# Altium schematic symbol library CornellBajaLibrary.SchLib: 108 symbols
Pins are listed as number, name and electrical type; pins without a type are passive.

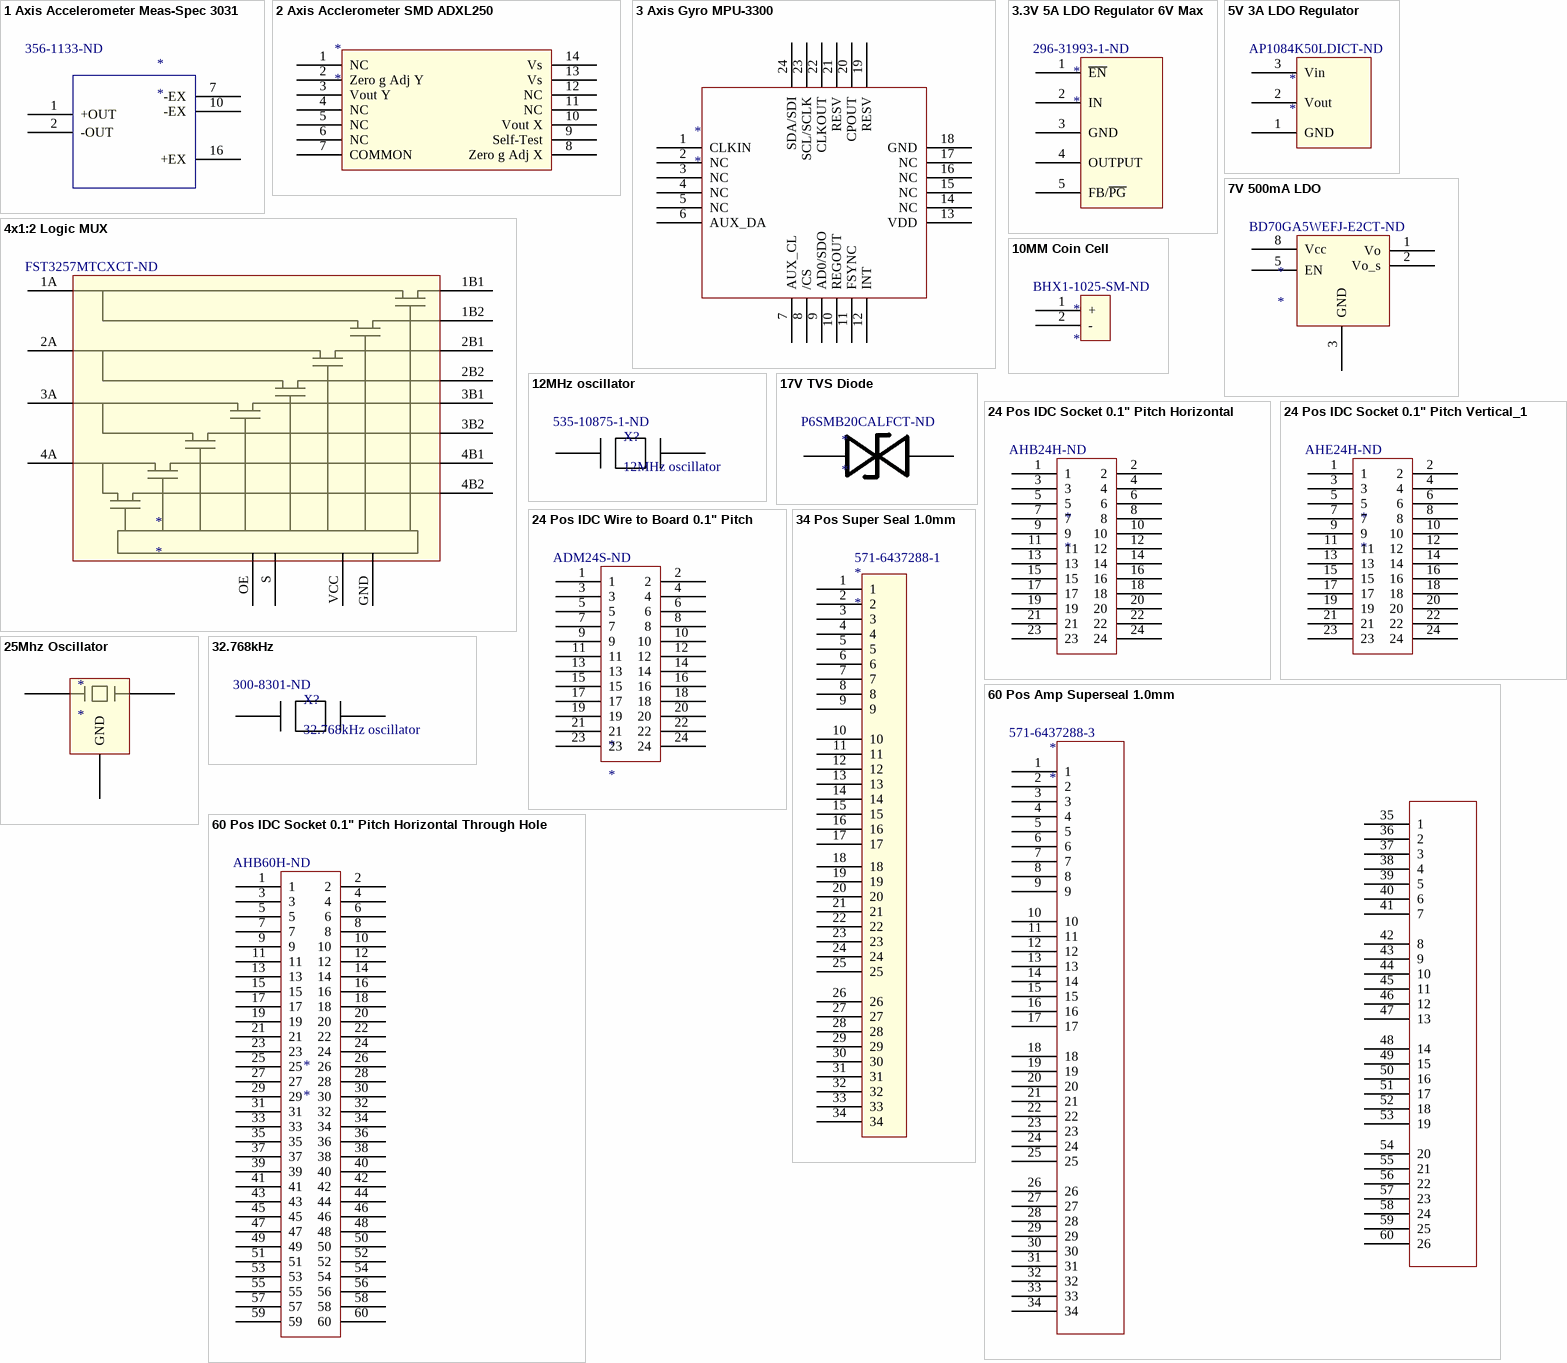
[diagram p0: symbols 1 Axis Accelerometer Meas-Spec 3031 to 60 Pos IDC Socket 0.1" Pitch Horizontal Through Hole]

## 1 Axis Accelerometer Meas-Spec 3031
designator *  Supplier Part Number 1: 356-1133-ND
Supplier 1: Digi-Key
footprint 1 Axis Accel 3031 (Meas-Spec 3031)
pins: 1 +OUT, 2 -OUT, 7 -EX, 10 -EX, 16 +EX

## 2 Axis Acclerometer SMD ADXL250
designator *
footprint ADXL250 (SOP, 14-Leads, Body 9.9x7.4mm (max), Pitch 1.27mm, IPC Medium Density)
pins: 1 NC, 2 Zero g Adj Y, 3 Vout Y, 4 NC, 5 NC, 6 NC, 7 COMMON, 8 Zero g Adj X, 9 Self-Test, 10 Vout X, 11 NC, 12 NC, 13 Vs, 14 Vs

## 3 Axis Gyro MPU-3300
designator *
footprint MPU-3300 (QFN, 24-Leads, Body 4.0x4.0mm (max), Pitch 0.50mm, IPC Medium Density)
pins: 1 CLKIN, 2 NC, 3 NC, 4 NC, 5 NC, 6 AUX_DA, 7 AUX_CL, 8 /CS, 9 AD0/SDO, 10 REGOUT, 11 FSYNC, 12 INT, 13 VDD, 14 NC, 15 NC, 16 NC, 17 NC, 18 GND, 19 RESV, 20 CPOUT, 21 RESV, 22 CLKOUT, 23 SCL/SCLK, 24 SDA/SDI

## 3.3V 5A LDO Regulator 6V Max
designator *  Supplier Part Number 1: 296-31993-1-ND
Supplier 1: Digi-Key; HelpURL: http://www.ti.com/lit/ds/symlink/tps75501.pdf
footprint 3.3V 5A LDO Reg 6V Max (TPS75533KTTT)
pins: 1 ~{EN}, 2 IN, 3 GND, 4 OUTPUT, 5 FB/~{PG}

## 4x1:2 Logic MUX
designator *  Supplier Part Number 1: FST3257MTCXCT-ND
Supplier 1: Digi-Key
footprint 4X 1:2 MUX (FST3257  QSOP); pin to pad 1A>4 1B1>2 1B2>3 2A>7 2B1>5 2B2>6 3A>9 3B1>11 3B2>10 4A>12 4B1>14 4B2>13 GND>8 OE>15 S>1 VCC>16
pins: 1A, 1B1, 1B2, 2A, 2B1, 2B2, 3A, 3B1, 3B2, 4A, 4B1, 4B2, GND, OE, S, VCC

## 5V 3A LDO Regulator
designator *  Supplier Part Number 1: AP1084K50LDICT-ND
Supplier 1: Digi-Key
footprint 5V 5A LDO Reg 12V Max (AP1084K50L-U)
pins: 1 GND, 2 Vout, 3 Vin

## 7V 500mA LDO
designator *  Supplier Part Number 1: BD70GA5WEFJ-E2CT-ND
Supplier 1: Digi-Key
footprint TSOP127P600X100_HS-8N (TSOP, 8-Leads, Body 5.2x4.0mm (max), Pitch 1.27mm, IPC Medium Density)
pins: 1 Vo, 2 Vo_s, 3 GND, 5 EN, 8 Vcc, 9 FIN

## 10MM Coin Cell
designator *  Supplier Part Number 1: BHX1-1025-SM-ND
Supplier 1: Digi-Key
footprint 10MM Coin Cell (BHX1-1025-SM)
pins: 1 +, 2 -

## 12MHz oscillator
designator X?  Supplier Part Number 1: 535-10875-1-ND
12MHz surface mount oscillator; Supplier 1: Digi-Key
footprint 12MHZ Oscillator (ABM2-12.000MHZ-D4Y-T)
pins: 1, 2

## 17V TVS Diode
designator *  Supplier Part Number 1: P6SMB20CALFCT-ND
Supplier 1: Digi-Key
footprint LittelFuse 17V TVS Diode (DO-214AA)
pins: 1 Anode, 2 Cathode

## 24 Pos IDC Socket 0.1" Pitch Horizontal
designator *  Supplier Part Number 1: AHB24H-ND
Supplier 1: Digi-Key
footprint 24 Pos IDC Horizontal 0.1" Pitch Socket
pins: 1, 2, 3, 4, 5, 6, 7, 8, 9, 10, 11, 12, 13, 14, 15, 16, 17, 18, 19, 20, 21, 22, 23, 24

## 24 Pos IDC Socket 0.1" Pitch Vertical_1
designator *  Supplier Part Number 1: AHE24H-ND
Supplier 1: Digi-Key
footprint 24 Pos IDC Vertical 0.1" Pitch Socket
pins: 1, 2, 3, 4, 5, 6, 7, 8, 9, 10, 11, 12, 13, 14, 15, 16, 17, 18, 19, 20, 21, 22, 23, 24

## 24 Pos IDC Wire to Board 0.1" Pitch
designator *  Supplier Part Number 1: ADM24S-ND
Supplier 1: Digi-Key
footprint 24 Pos IDC Vertical 0.1" Pitch Wire to Board
pins: 1, 2, 3, 4, 5, 6, 7, 8, 9, 10, 11, 12, 13, 14, 15, 16, 17, 18, 19, 20, 21, 22, 23, 24

## 25Mhz Oscillator
designator *
footprint 25Mhz Oscillator
pins: 1, 2 GND, 3 2, 4 GND

## 32.768kHz
designator X?, comment 32.768kHz oscillator  Supplier Part Number 1: 300-8301-ND
32.768kHz surface mount oscillator; Supplier 1: Digi-Key
footprint 32.768kHz Oscillator (CFS-206)
pins: 1, 2

## 34 Pos Super Seal 1.0mm
designator *  Supplier Part Number 1: 571-6437288-1
Supplier 1: Mouser
footprint 34 Pos Amp Superseal 1.0mm (6437288-1)
pins: 1, 2, 3, 4, 5, 6, 7, 8, 9, 10, 11, 12, 13, 14, 15, 16, 17, 18, 19, 20, 21, 22, 23, 24, 25, 26, 27, 28, 29, 30, 31, 32, 33, 34

## 60 Pos Amp Superseal 1.0mm
designator *  Supplier Part Number 1: 571-6437288-3
Supplier 1: Mouser
footprint 60 Pos Amp Superseal 1.mm (6437288-3)
pins: 1, 2, 3, 4, 5, 6, 7, 8, 9, 10, 11, 12, 13, 14, 15, 16, 17, 18, 19, 20, 21, 22, 23, 24, 25, 26, 27, 28, 29, 30, 31, 32, 33, 34, 35 1, 36 2, 37 3, 38 4, 39 5, 40 6, 41 7, 42 8, 43 9, 44 10, 45 11, 46 12, 47 13, 48 14, 49 15, 50 16, 51 17, 52 18, 53 19, 54 20, 55 21, 56 22, 57 23, 58 24, 59 25, 60 26

## 60 Pos IDC Socket 0.1" Pitch Horizontal Through Hole
designator *  Supplier Part Number 1: AHB60H-ND
Supplier 1: Digi-Key
footprint 60 Pos IDC Horizontal 0.1" Pitch Socket Through Hole
pins: 1, 2, 3, 4, 5, 6, 7, 8, 9, 10, 11, 12, 13, 14, 15, 16, 17, 18, 19, 20, 21, 22, 23, 24, 25, 26, 27, 28, 29, 30, 31, 32, 33, 34, 35, 36, 37, 38, 39, 40, 41, 42, 43, 44, 45, 46, 47, 48, 49, 50, 51, 52, 53, 54, 55, 56, 57, 58, 59, 60

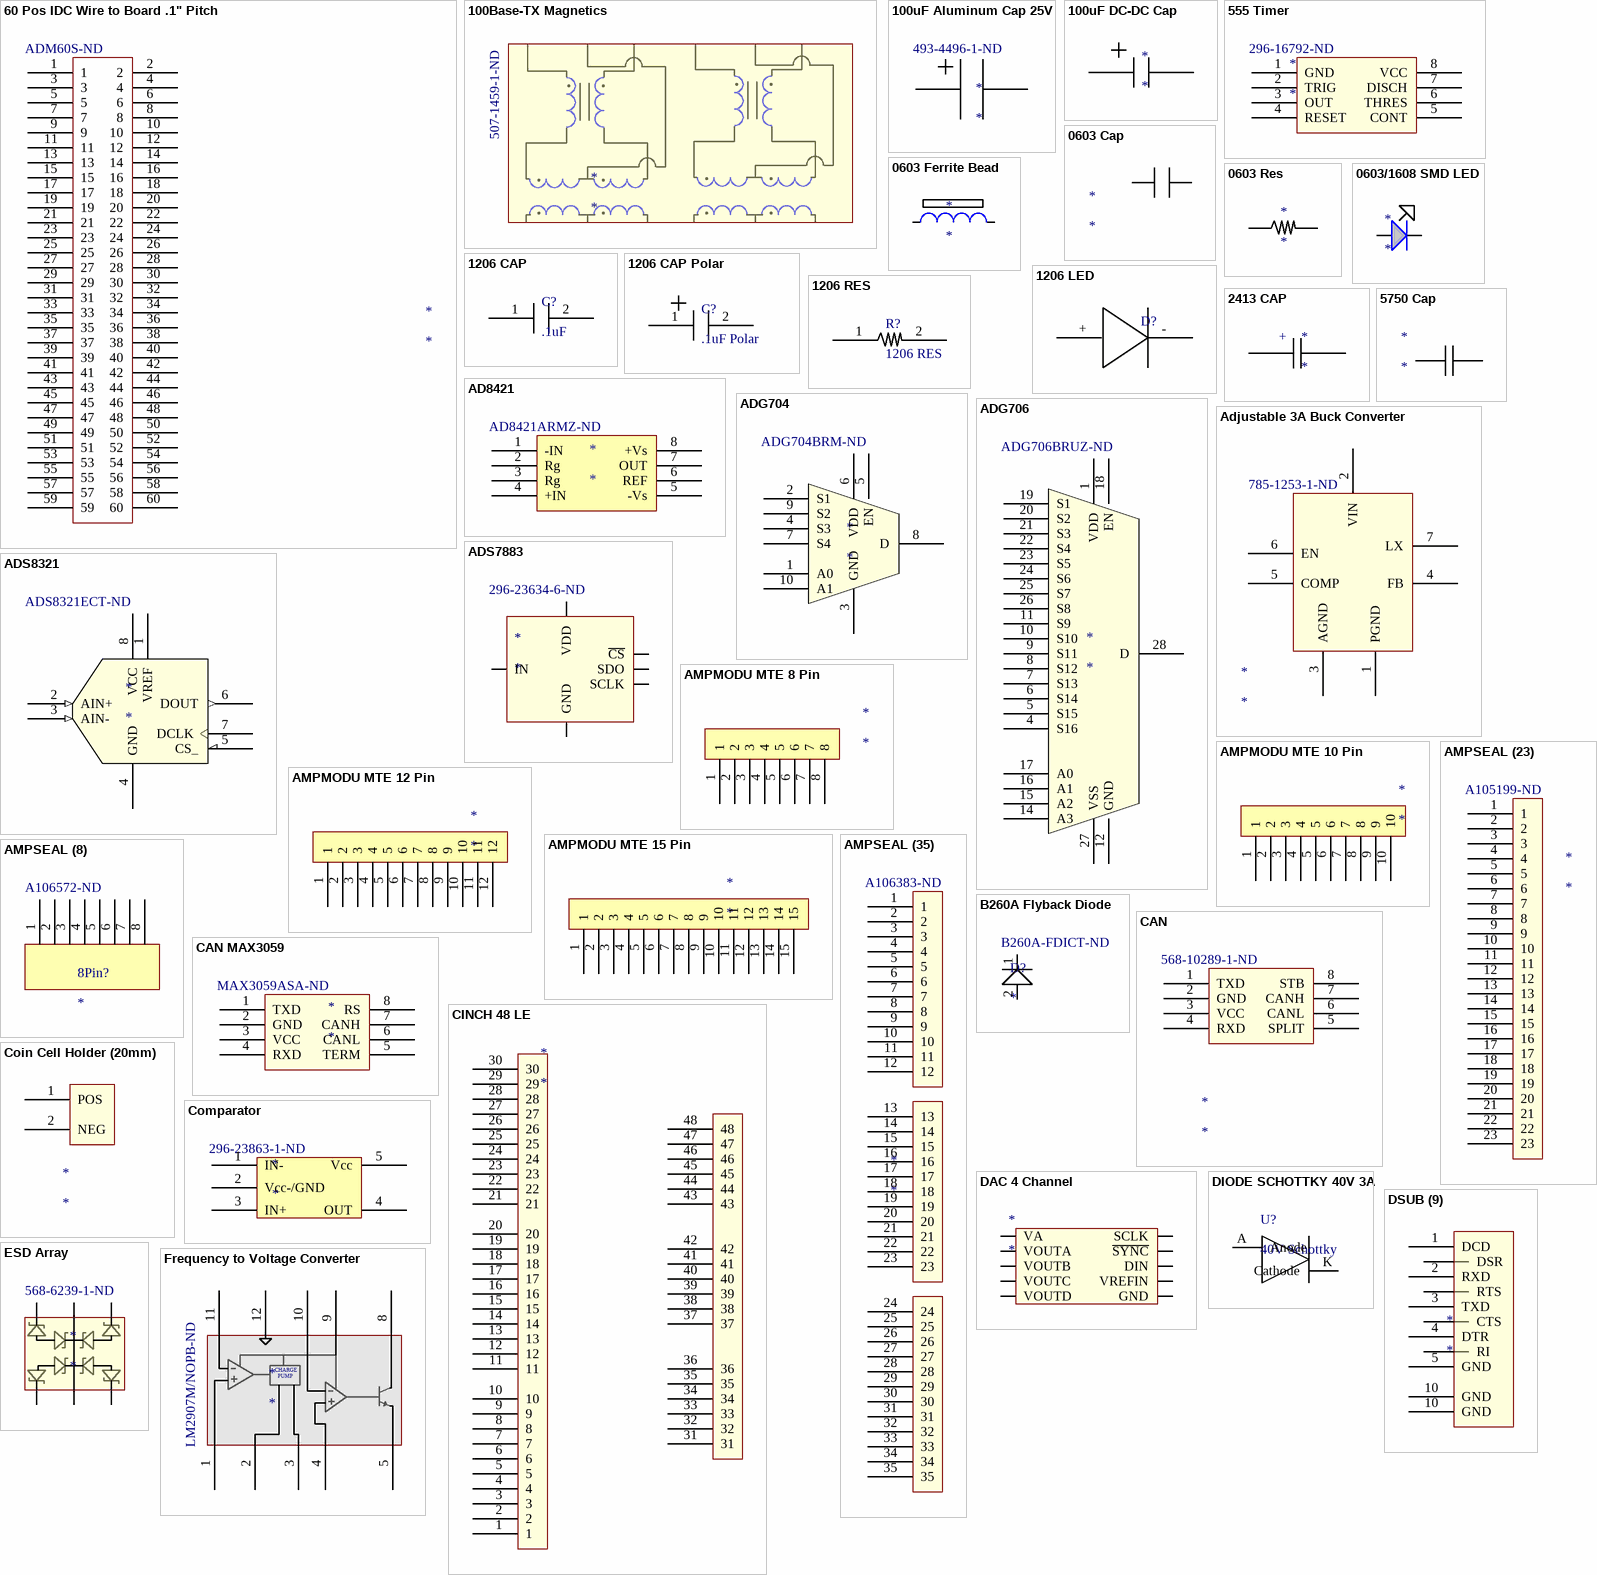
[diagram p1: symbols 60 Pos IDC Wire to Board .1" Pitch to Frequency to Voltage Converter]

## 60 Pos IDC Wire to Board .1" Pitch
designator *  Supplier Part Number 1: ADM60S-ND
Supplier 1: Digi-Key
footprint 60 Pos IDC Vertical 0.1" Pitch Wire to Board
pins: 1, 2, 3, 4, 5, 6, 7, 8, 9, 10, 11, 12, 13, 14, 15, 16, 17, 18, 19, 20, 21, 22, 23, 24, 25, 26, 27, 28, 29, 30, 31, 32, 33, 34, 35, 36, 37, 38, 39, 40, 41, 42, 43, 44, 45, 46, 47, 48, 49, 50, 51, 52, 53, 54, 55, 56, 57, 58, 59, 60

## 100Base-TX Magnetics
designator *  Supplier Part Number 1: 507-1459-1-ND
Supplier 1: Digi-Key
footprint SOP127P920X571-16N (SOP, 16-Leads, Body 12.32x7.24mm, Pitch 1.27mm, IPC Medium Density)
pins: 1, 2, 3, 6, 7, 8, 9, 10, 11, 14, 15, 16

## 100uF Aluminum Cap 25V
designator *  Supplier Part Number 1: 493-4496-1-ND
Supplier 1: Digi-Key
footprint 100uF 25V Electrolytic Cap (UBT1E101MPD1TD)
pins: 1 +, 2 -

## 100uF DC-DC Cap
designator *
Supplier 1: Digi-Key; ComponentLink1URL: http://www.nichicon.co.jp/english/products/pdf/2013fpcap_catalog_r7.pdf; ComponentLink1Description: http://www.nichicon.co.jp/english/products/pdf/2013fpcap_catalog_r7.pdf; Supplier Part Number 1: 493-3716-ND
footprint 100uF DC-DC Cap
pins: 1 +, 2 -

## 555 Timer
designator *  Supplier Part Number 1: 296-16792-ND
NE555; Supplier 1: Digi-Key
footprint 555 Timer (NE555)
pins: 1 GND, 2 TRIG, 3 OUT, 4 RESET, 5 CONT, 6 THRES, 7 DISCH, 8 VCC

## 0603 Cap
designator *
footprint 0603/1608 SMD Resistor
pins: 1, 2

## 0603 Ferrite Bead
designator *
footprint 0603/1608 SMD Resistor
pins: 1, 2

## 0603 Res
designator *
footprint 0603/1608 SMD Resistor
pins: 1, 2

## 0603/1608 SMD LED
designator *
footprint 0603/1608 SMD LED
pins: 1, 2

## 1206 CAP
designator C?, comment .1uF
.1 uF decoupling caps.  you probably want this for your project; ComponentLink1Description: Datasheet for .1 uF Capacitor; ComponentLink1URL: http://www.kemet.com/kemet/web/homepage/kechome.nsf/vapubfiles/F3102_X7R.pdf/$file/F3102_X7R.pdf; Supplier 1: Digi-Key; Supplier Part Number 1: 311-1161-1-ND
footprint 1206
pins: 1, 2

## 1206 CAP Polar
designator C?, comment .1uF Polar
.1 uF decoupling caps.  you probably want this for your project; ComponentLink1Description: Datasheet for .1 uF Capacitor; ComponentLink1URL: http://www.kemet.com/kemet/web/homepage/kechome.nsf/vapubfiles/F3102_X7R.pdf/$file/F3102_X7R.pdf
footprint 1206 (POLAR)
pins: 1, 2

## 1206 LED
designator D?
Green surface mount LED
footprint Cathode Mark 1206 led footprint (OSRAM semiconductor)
pins: +, -

## 1206 RES
designator R?
0 ohm surface mount resistor.; ComponentLink1URL: http://industrial.panasonic.com/www-cgi/jvcr13pz.cgi?E+PZ+3+AOA0001+ERJ8GEYJ103V+7+WW; ComponentLink1Description: Datasheet for 10k Resistor
footprint 1206
pins: 1, 2

## 2413 CAP
designator *
footprint 2512 CAP
pins: + 1, - 2

## 5750 Cap
designator *
Supplier 1: Digi-Key; Supplier Part Number 1: 445-1655-1-ND
footprint 5750 SMD Cap
pins: 1, 2

## AD8421
designator *  Supplier Part Number 1: AD8421ARMZ-ND
Inamp with 10000 gain; ComponentLink1URL: http://www.analog.com/static/imported-files/data_sheets/AD8223.pdf; ComponentLink1Description: http://www.analog.com/static/imported-files/data_sheets/AD8223.pdf; Supplier 1: Digi-Key; ComponentLink2URL: http://www.analog.com/static/imported-files/data_sheets/AD8421.pdf; ComponentLink2Description: http://www.analog.com/static/imported-files/data_sheets/AD8421.pdf
footprint SOIC127P600X175-8N (SOIC, 8-Leads, Body 5.0x4.0mm (max), Pitch 1.27mm, IPC Medium Density)
pins: 1 -IN, 2 Rg, 3 Rg, 4 +IN, 5 -Vs, 6 REF, 7 OUT, 8 +Vs

## ADG704
designator *  Supplier Part Number 1: ADG704BRM-ND
Analog 1:4 MUX; Supplier 1: Digi-Key; ComponentLink1URL: http://www.analog.com/static/imported-files/data_sheets/ADG704.pdf; ComponentLink1Description: http://www.analog.com/static/imported-files/data_sheets/ADG704.pdf
footprint TSSOP50P490X110-10N (TSSOP, 10-Leads, Body 3.0x3.0mm (max), Pitch 0.50mm, IPC Medium Density)
pins: 1 A0, 2 S1, 3 GND, 4 S3, 5 EN, 6 VDD, 7 S4, 8 D, 9 S2, 10 A1

## ADG706
designator *  Supplier Part Number 1: ADG706BRUZ-ND
Analog 1:16 MUX; Supplier 1: Digi-Key; ComponentLink1URL: http://www.analog.com/static/imported-files/data_sheets/AD8223.pdf; ComponentLink1Description: http://www.analog.com/static/imported-files/data_sheets/AD8223.pdf
footprint TSOP65P640X110-28N (TSOP, 28-Leads, Body 9.8x4.5mm (max), Pitch 0.65mm, IPC Medium Density)
pins: 1 VDD, 4 S16, 5 S15, 6 S14, 7 S13, 8 S12, 9 S11, 10 S10, 11 S9, 12 GND, 14 A3, 15 A2, 16 A1, 17 A0, 18 EN, 19 S1, 20 S2, 21 S3, 22 S4, 23 S5, 24 S6, 25 S7, 26 S8, 27 VSS, 28 D

## Adjustable 3A Buck Converter
designator *  Supplier Part Number 1: 785-1253-1-ND
Supplier 1: Digi-Key
footprint 3A Buck Converter (SOIC, 8-Leads, Body 5.0x4.0mm (max), Pitch 1.27mm, IPC Medium Density AOZ1031AI)
pins: 1 PGND, 2 VIN, 3 AGND, 4 FB, 5 COMP, 6 EN, 7 LX, 8 LX

## ADS7883
designator *  Supplier Part Number 1: 296-23634-6-ND
Supplier 1: Digi-Key
footprint TSOP95P280X145-6N (TSOP, 6-Leads, Body 2.90x1.60mm, Pitch 0.95mm, IPC Medium Density)
pins: 1 VDD, 2 GND, 3 IN, 4 SCLK, 5 SDO, 6 ~{CS}

## ADS8321
designator *  Supplier Part Number 1: ADS8321ECT-ND
100ksps 16-bit Differential ADC; Supplier 1: Digi-Key; ComponentLink1URL: http://www.ti.com/lit/ds/symlink/ads8321.pdf; ComponentLink1Description: http://www.ti.com/lit/ds/symlink/ads8321.pdf
footprint TSOP65P490X110-8N (TSOP, 8-Leads, Body 3.1x3.1mm (max), Pitch 0.65mm, IPC Medium Density)
pins: 1 VREF (power), 2 AIN+ (in), 3 AIN- (in), 4 GND, 5 CS_, 6 DOUT (out), 7 DCLK, 8 VCC (power)

## AMPMODU MTE 8 Pin
designator *
footprint AMPMODU 8 Pin
pins: 1, 2, 3, 4, 5, 6, 7, 8

## AMPMODU MTE 10 Pin
designator *
footprint AMPMODU 10 Pin
pins: 1, 2, 3, 4, 5, 6, 7, 8, 9, 10

## AMPMODU MTE 12 Pin
designator *
footprint AMPMODU 12 Pin
pins: 1, 2, 3, 4, 5, 6, 7, 8, 9, 10, 11, 12

## AMPMODU MTE 15 Pin
designator *
footprint AMPMODU 15 Pin
pins: 1, 2, 3, 4, 5, 6, 7, 8, 9, 10, 11, 12, 13, 14, 15

## AMPSEAL (8)
designator 8Pin?  Supplier Part Number 1: A106572-ND
AMPSEAL 8 Position Vertical; Product Number: 1-776276-1; Supplier 1: Digi-Key
footprint AMPSEAL (8)
pins: 1, 2, 3, 4, 5, 6, 7, 8

## AMPSEAL (23)
designator *  Supplier Part Number 1: A105199-ND
Supplier 1: Digi-Key
footprint AMPSEAL (23)
pins: 1, 2, 3, 4, 5, 6, 7, 8, 9, 10, 11, 12, 13, 14, 15, 16, 17, 18, 19, 20, 21, 22, 23

## AMPSEAL (35)
designator *  Supplier Part Number 1: A106383-ND
Supplier 1: Digi-Key
footprint Ampseal (35)
pins: 1, 2, 3, 4, 5, 6, 7, 8, 9, 10, 11, 12, 13, 14, 15, 16, 17, 18, 19, 20, 21, 22, 23, 24, 25, 26, 27, 28, 29, 30, 31, 32, 33, 34, 35

## B260A Flyback Diode
designator D?  Supplier Part Number 1: B260A-FDICT-ND
Supplier 1: Digi-Key
footprint DO-214AC
pins: 1, 2

## CAN
designator *  Supplier Part Number 1: 568-10289-1-ND
Supplier 1: Digi-Key
footprint TJA1040 (SOIC, 8-Leads, Body 5.0x4.0mm (max), Pitch 1.27mm, IPC Medium Density)
pins: 1 TXD, 2 GND, 3 VCC, 4 RXD, 5 SPLIT, 6 CANL, 7 CANH, 8 STB

## CAN MAX3059
designator *  Supplier Part Number 1: MAX3059ASA-ND
Supplier 1: Digi-Key
footprint TJA1040 (SOIC, 8-Leads, Body 5.0x4.0mm (max), Pitch 1.27mm, IPC Medium Density)
pins: 1 TXD, 2 GND, 3 VCC, 4 RXD, 5 TERM, 6 CANL, 7 CANH, 8 RS

## CINCH 48 LE
designator *
footprint Cinch (48) LE
pins: 1, 2, 3, 4, 5, 6, 7, 8, 9, 10, 11, 12, 13, 14, 15, 16, 17, 18, 19, 20, 21, 22, 23, 24, 25, 26, 27, 28, 29, 30, 31, 32, 33, 34, 35, 36, 37, 38, 39, 40, 41, 42, 43, 44, 45, 46, 47, 48

## Coin Cell Holder (20mm)
designator *
footprint Coin Cell Holder 2032
pins: 1 POS, 2 NEG

## Comparator
designator *  Supplier Part Number 1: 296-23863-1-ND
Supplier 1: Digi-Key
footprint Comparator (TL331KDBVR)
pins: 1 IN-, 2 Vcc-/GND, 3 IN+, 4 OUT, 5 Vcc

## DAC 4 Channel
designator *
footprint TSSOP50P490X110-10N (TSSOP, 10-Leads, Body 3.0x3.0mm (max), Pitch 0.50mm, IPC Medium Density)
pins: 1 VA, 2 VOUTA, 3 VOUTB, 4 VOUTC, 5 VOUTD, 6 GND, 7 VREFIN, 8 DIN, 9 ~{SYNC}, 10 SCLK

## DIODE SCHOTTKY 40V 3A
designator U?, comment 40V Schottky
DIODE SCHOTTKY 40V 3A SMA; ComponentLink1Description: Diode Datasheet; ComponentLink1URL: http://www.diodes.com/datasheets/ds30240.pdf
footprint DIODE SCHOTTKY 40V 3A SMA
pins: A Anode, K Cathode

## DSUB (9)
designator *
footprint 9 Pin D Sub
pins: 1 DCD, 2 RXD, 3 TXD, 4 DTR, 5 GND, 6 DSR, 7 RTS, 8 CTS, 9 RI, 10 GND, 10 GND

## ESD Array
designator *  Supplier Part Number 1: 568-6239-1-ND
BZA408B,115; Supplier 1: Digi-Key
footprint ESD_Array_BZA408B (SOT23, 6-Leads, Body 3.1x3.0mm (max), Pitch 0.95mm, IPC Medium Density)
pins: 1, 2, 3, 4, 5, 6

## Frequency to Voltage Converter
designator *  Supplier Part Number 1: LM2907M/NOPB-ND
Supplier 1: Digi-Key
footprint SOP127P600X175-14N (SOP, 14-Leads, Body 8.8x4.0mm (max), Pitch 1.27mm, IPC Medium Density)
pins: 1 fin, 2 fin, 3 fin, 4 fin, 5 fin, 8 fin, 9 fin, 10 fin, 11 fin, 12 fin
text: CHARGE; PUMP

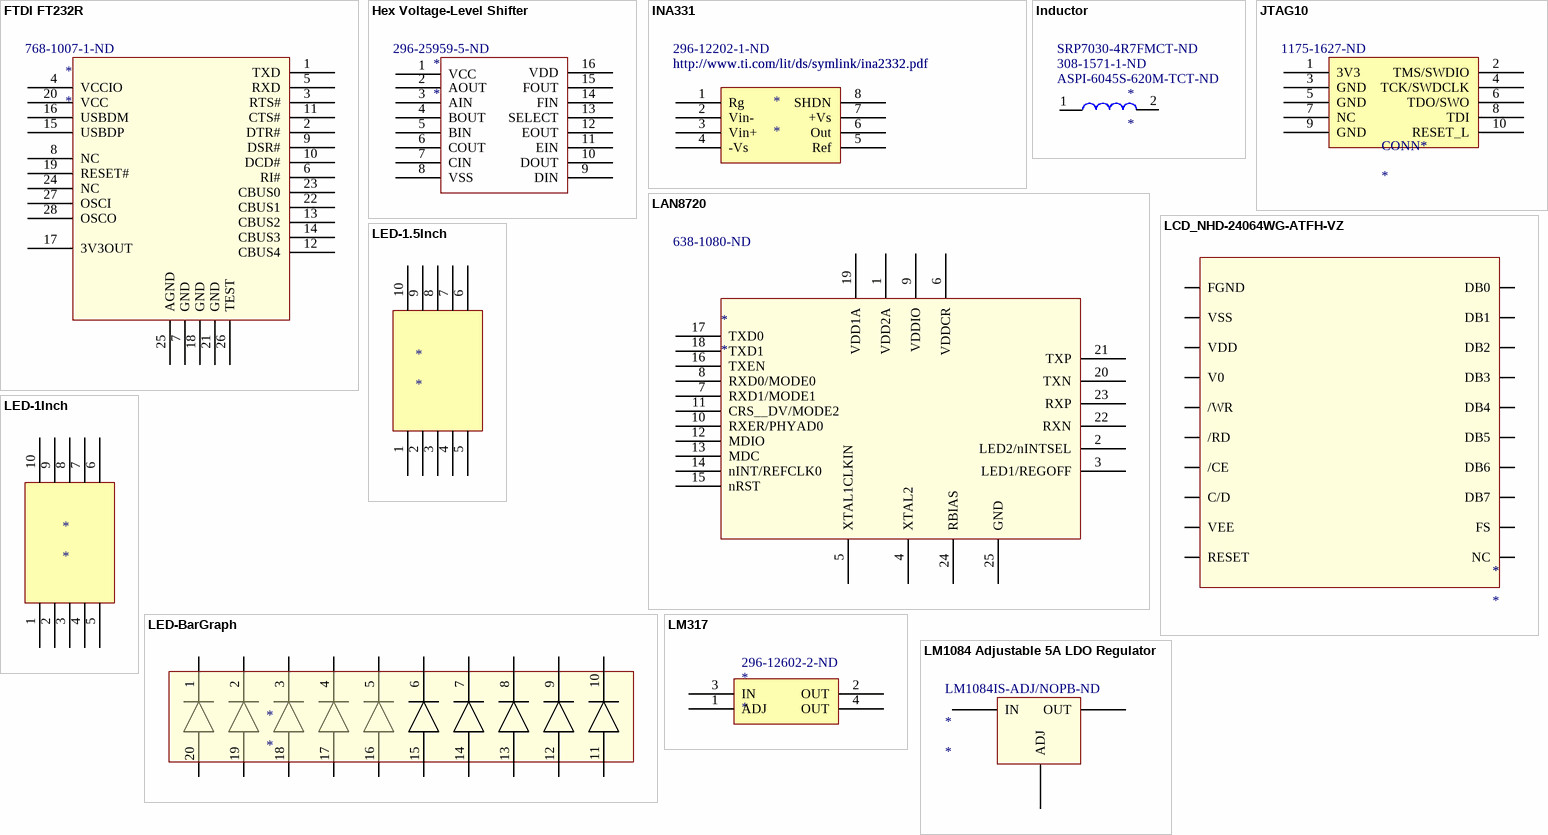
[diagram p2: symbols FTDI FT232R to LM1084 Adjustable 5A LDO Regulator]

## FTDI FT232R
designator *  Supplier Part Number 1: 768-1007-1-ND
Supplier 1: Digi-Key
footprint FTDI FT232R (SOP, 28-Leads, Body 10.5x5.6mm (max), Pitch 0.65mm, IPC Medium Density)
pins: 1 TXD, 2 DTR#, 3 RTS#, 4 VCCIO, 5 RXD, 6 RI#, 7 GND, 8 NC, 9 DSR#, 10 DCD#, 11 CTS#, 12 CBUS4, 13 CBUS2, 14 CBUS3, 15 USBDP, 16 USBDM, 17 3V3OUT, 18 GND, 19 RESET#, 20 VCC, 21 GND, 22 CBUS1, 23 CBUS0, 24 NC, 25 AGND, 26 TEST, 27 OSCI, 28 OSCO

## Hex Voltage-Level Shifter
designator *  Supplier Part Number 1: 296-25959-5-ND
Supplier 1: Digi-Key
footprint Hex Voltage-Level Shifter (CD4504B)
pins: 1 VCC, 2 AOUT, 3 AIN, 4 BOUT, 5 BIN, 6 COUT, 7 CIN, 8 VSS, 9 DIN, 10 DOUT, 11 EIN, 12 EOUT, 13 SELECT, 14 FIN, 15 FOUT, 16 VDD

## INA331
designator *  Supplier Part Number 1: 296-12202-1-ND
Inamp Rail Output 2MHz; Supplier 1: Digi-Key; ComponentLink1URL: http://www.ti.com/lit/ds/symlink/ina2332.pdf; ComponentLink1Description: http://www.ti.com/lit/ds/symlink/ina2332.pdf
footprint TSOP65P490X110-8N (TSOP, 8-Leads, Body 3.1x3.1mm (max), Pitch 0.65mm, IPC Medium Density)
pins: 1 Rg, 2 Vin-, 3 Vin+, 4 -Vs, 5 Ref, 6 Out, 7 +Vs, 8 SHDN

## Inductor
designator *  Supplier Part Number 1: ASPI-6045S-620M-TCT-ND  Supplier Part Number 2: 308-1571-1-ND  Supplier Part Number 3: SRP7030-4R7FMCT-ND
Inductor; Supplier 1: Digi-Key; Supplier 2: Digi-Key; Supplier 3: Digi-Key
footprint ASPI-6045
footprint 4.7uH Inductor Wirewound 5A (SRP7030-4R7FM)
footprint 4.7uH 1MHz Inductor (CDMC6D28NP-4R7MC)
pins: 1, 2

## JTAG10
designator CONN*  Supplier Part Number 1: 1175-1627-ND
3220-10-0100-00; Supplier 1: Digi-Key
footprint JTAG10 Polarity (3220-10-0100-00)
pins: 1 3V3, 2 TMS/SWDIO, 3 GND, 4 TCK/SWDCLK, 5 GND, 6 TDO/SWO, 7 NC, 8 TDI, 9 GND, 10 RESET_L

## LAN8720
designator *  Supplier Part Number 1: 638-1080-ND
Supplier 1: Digi-Key
footprint QFN50P400X400X100_HS-25N (QFN, 24-Leads, Body 4.00x4.00mm, Pitch 0.50mm, Thermal Pad 2.50x2.50mm, IPC Medium Density)
pins: 1 VDD2A, 2 LED2/nINTSEL, 3 LED1/REGOFF, 4 XTAL2, 5 XTAL1CLKIN, 6 VDDCR, 7 RXD1/MODE1, 8 RXD0/MODE0, 9 VDDIO, 10 RXER/PHYAD0, 11 CRS__DV/MODE2, 12 MDIO, 13 MDC, 14 nINT/REFCLK0, 15 nRST, 16 TXEN, 17 TXD0, 18 TXD1, 19 VDD1A, 20 TXN, 21 TXP, 22 RXN, 23 RXP, 24 RBIAS, 25 GND

## LCD_NHD-24064WG-ATFH-VZ
designator *
pins: 1 FGND, 2 VSS, 3 VDD, 4 V0, 5 /WR, 6 /RD, 7 /CE, 8 C/D, 9 VEE, 10 RESET, 11 DB1, 11 DB0, 12 DB3, 12 DB2, 13 DB4, 14 DB5, 15 DB6, 16 DB7, 19 FS, 20 NC

## LED-1.5Inch
designator *
footprint LED 1.5 Inch 7 Segment
pins: 1, 2, 3, 4, 5, 6, 7, 8, 9, 10

## LED-1Inch
designator *
footprint LED 1 Inch 7 Segment
pins: 1, 2, 3, 4, 5, 6, 7, 8, 9, 10

## LED-BarGraph
designator *
footprint LED Bargraph
pins: 1 Cathode, 2 Cathode, 3 Cathode, 4 Cathode, 5 Cathode, 6 Cathode, 7 Cathode, 8 Cathode, 9 Cathode, 10 Cathode, 11 Anode, 12 Anode, 13 Anode, 14 Anode, 15 Anode, 16 Anode, 17 Anode, 18 Anode, 19 Anode, 20 Anode

## LM317
designator *  Supplier Part Number 1: 296-12602-2-ND
40V Input Adjustable LDO; Supplier 1: Digi-Key; ComponentLink1URL: http://www.ti.com/lit/ds/symlink/lm317.pdf; ComponentLink1Description: http://www.ti.com/lit/ds/symlink/lm317.pdf
footprint SOT230P700X180-4N (SOT223, 4-Leads, Body 6.7x7.3mm (max), Pitch 2.30mm, IPC Medium Density)
pins: 1 ADJ, 2 OUT, 3 IN, 4 OUT

## LM1084 Adjustable 5A LDO Regulator
designator *  Supplier Part Number 1: LM1084IS-ADJ/NOPB-ND
Supplier 1: Digi-Key
footprint LM1084 5A (D2-PAK, 4-Pads, Body 8.6x10.3mm (max), IPC Medium Density)
pins: 1 ADJ, 2 OUT, 3 IN

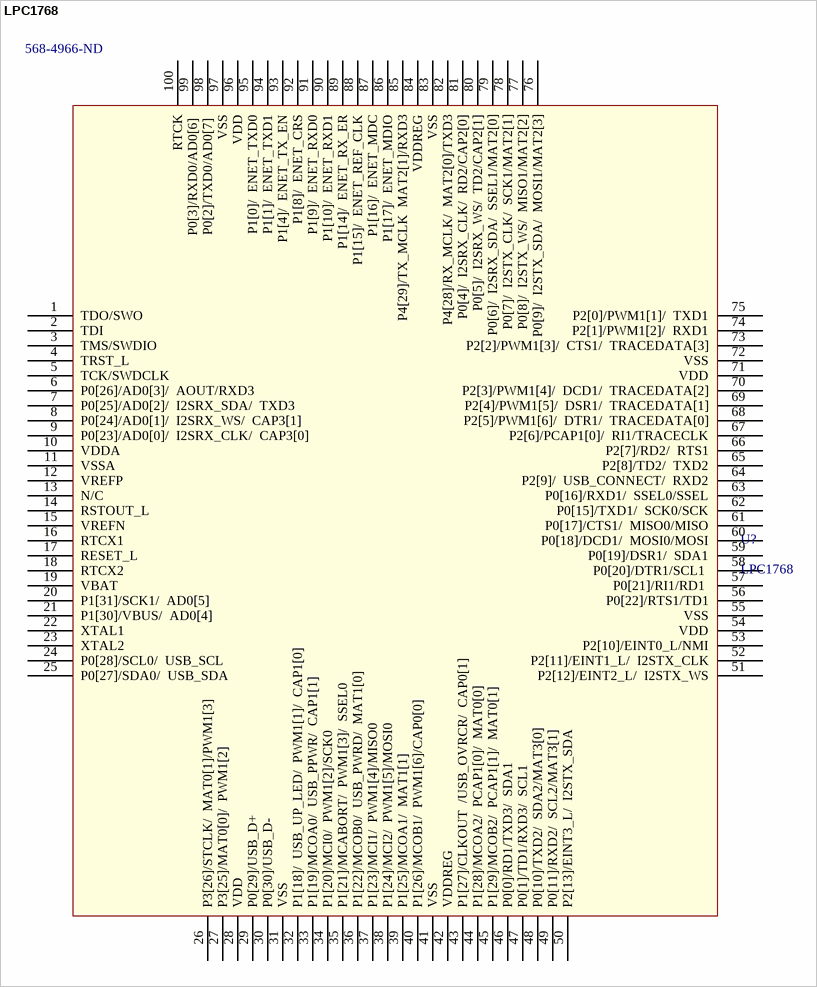
[diagram p3: symbol LPC1768]

## LPC1768
designator U?  Supplier Part Number 1: 568-4966-ND
100 pin ARM microcontroller; Supplier 1: Digi-Key
footprint LPC1768 (TSQFP, 100-Leads, Body 16.3x16.3mm (max), Pitch 0.50mm, IPC Medium Density)
pins: 1 TDO/SWO , 2 TDI, 3 TMS/SWDIO, 4 TRST_L, 5 TCK/SWDCLK, 6 P0[26]/AD0[3]/  AOUT/RXD3, 7 P0[25]/AD0[2]/  I2SRX_SDA/  TXD3, 8 P0[24]/AD0[1]/  I2SRX_WS/  CAP3[1], 9 P0[23]/AD0[0]/  I2SRX_CLK/  CAP3[0], 10 VDDA, 11 VSSA, 12 VREFP, 13 N/C, 14 RSTOUT_L, 15 VREFN, 16 RTCX1, 17 RESET_L, 18 RTCX2, 19 VBAT, 20 P1[31]/SCK1/  AD0[5], 21 P1[30]/VBUS/  AD0[4], 22 XTAL1, 23 XTAL2, 24 P0[28]/SCL0/  USB_SCL, 25 P0[27]/SDA0/  USB_SDA, 26 P3[26]/STCLK/  MAT0[1]/PWM1[3], 27 P3[25]/MAT0[0]/  PWM1[2], 28 VDD, 29 P0[29]/USB_D+ , 30 P0[30]/USB_D-, 31 VSS, 32 P1[18]/  USB_UP_LED/  PWM1[1]/  CAP1[0], 33 P1[19]/MCOA0/  USB_PPWR/  CAP1[1], 34 P1[20]/MCI0/  PWM1[2]/SCK0, 35 P1[21]/MCABORT/  PWM1[3]/  SSEL0, 36 P1[22]/MCOB0/  USB_PWRD/  MAT1[0], 37 P1[23]/MCI1/  PWM1[4]/MISO0, 38 P1[24]/MCI2/  PWM1[5]/MOSI0, 39 P1[25]/MCOA1/  MAT1[1], 40 P1[26]/MCOB1/  PWM1[6]/CAP0[0], 41 VSS, 42 VDDREG, 43 P1[27]/CLKOUT  /USB_OVRCR/  CAP0[1], 44 P1[28]/MCOA2/  PCAP1[0]/  MAT0[0], 45 P1[29]/MCOB2/  PCAP1[1]/  MAT0[1], 46 P0[0]/RD1/TXD3/  SDA1, 47 P0[1]/TD1/RXD3/  SCL1, 48 P0[10]/TXD2/  SDA2/MAT3[0], 49 P0[11]/RXD2/  SCL2/MAT3[1], 50 P2[13]/EINT3_L/  I2STX_SDA, 51 P2[12]/EINT2_L/  I2STX_WS, 52 P2[11]/EINT1_L/  I2STX_CLK, 53 P2[10]/EINT0_L/NMI, 54 VDD, 55 VSS, 56 P0[22]/RTS1/TD1, 57 P0[21]/RI1/RD1 , 58 P0[20]/DTR1/SCL1 , 59 P0[19]/DSR1/  SDA1, 60 P0[18]/DCD1/  MOSI0/MOSI, 61 P0[17]/CTS1/  MISO0/MISO, 62 P0[15]/TXD1/  SCK0/SCK, 63 P0[16]/RXD1/  SSEL0/SSEL, 64 P2[9]/  USB_CONNECT/  RXD2, 65 P2[8]/TD2/  TXD2, 66 P2[7]/RD2/  RTS1, 67 P2[6]/PCAP1[0]/  RI1/TRACECLK, 68 P2[5]/PWM1[6]/  DTR1/  TRACEDATA[0], 69 P2[4]/PWM1[5]/  DSR1/  TRACEDATA[1], 70 P2[3]/PWM1[4]/  DCD1/  TRACEDATA[2], 71 VDD, 72 VSS, 73 P2[2]/PWM1[3]/  CTS1/  TRACEDATA[3], 74 P2[1]/PWM1[2]/  RXD1, 75 P2[0]/PWM1[1]/  TXD1, 76 P0[9]/  I2STX_SDA/  MOSI1/MAT2[3], 77 P0[8]/  I2STX_WS/  MISO1/MAT2[2], 78 P0[7]/  I2STX_CLK/  SCK1/MAT2[1], 79 P0[6]/  I2SRX_SDA/  SSEL1/MAT2[0], 80 P0[5]/  I2SRX_WS/  TD2/CAP2[1], 81 P0[4]/  I2SRX_CLK/  RD2/CAP2[0], 82 P4[28]/RX_MCLK/  MAT2[0]/TXD3, 83 VSS, 84 VDDREG, 85 P4[29]/TX_MCLK  MAT2[1]/RXD3, 86 P1[17]/  ENET_MDIO, 87 P1[16]/  ENET_MDC, 88 P1[15]/  ENET_REF_CLK, 89 P1[14]/  ENET_RX_ER, 90 P1[10]/  ENET_RXD1, 91 P1[9]/  ENET_RXD0, 92 P1[8]/  ENET_CRS, 93 P1[4]/  ENET_TX_EN, 94 P1[1]/  ENET_TXD1, 95 P1[0]/  ENET_TXD0, 96 VDD, 97 VSS, 98 P0[2]/TXD0/AD0[7] , 99 P0[3]/RXD0/AD0[6] , 100 RTCK

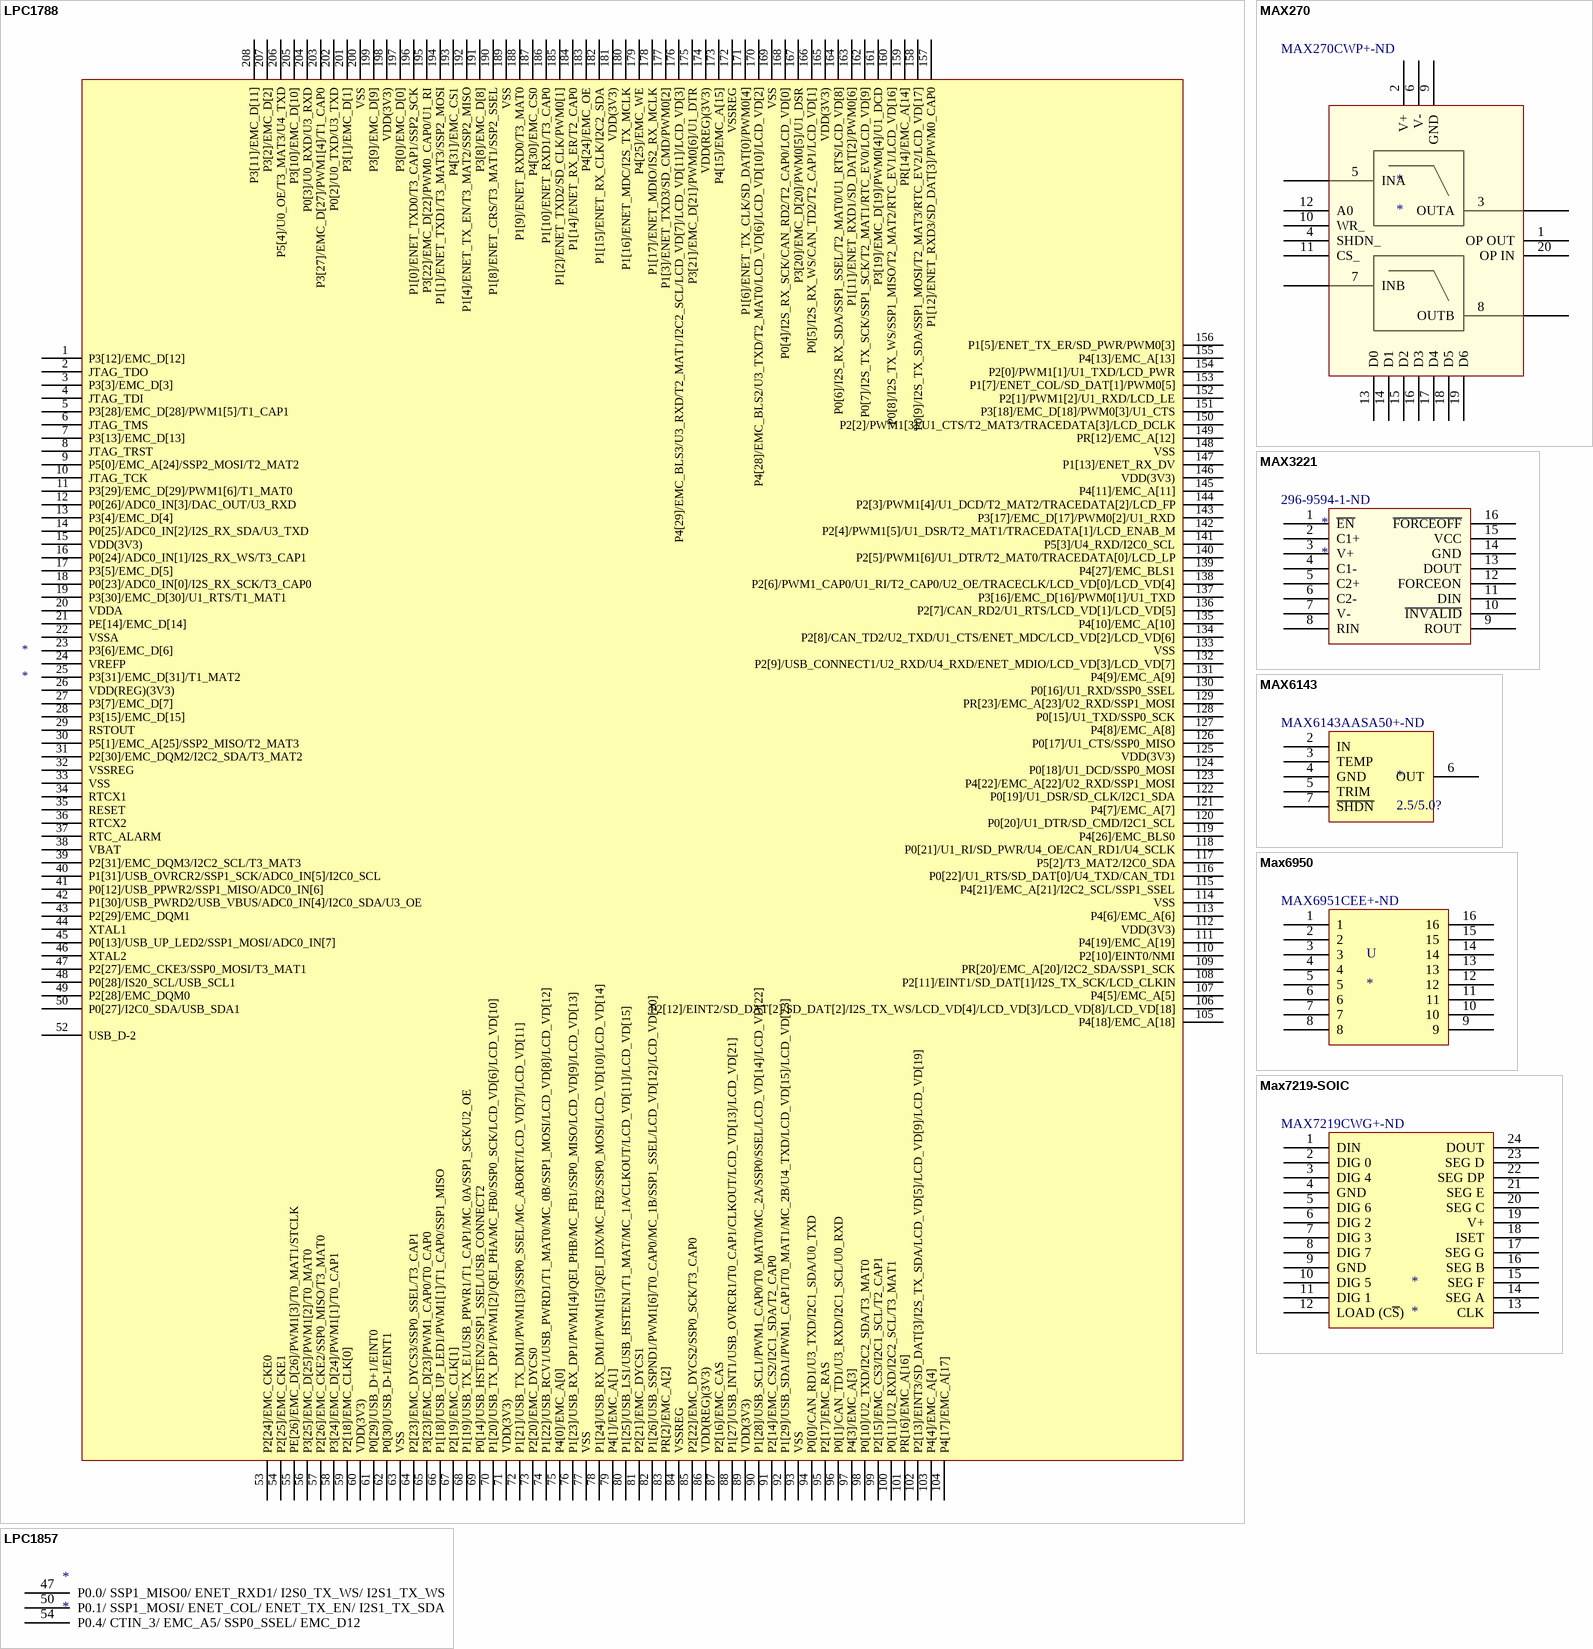
[diagram p4: symbols LPC1788 to Max7219-SOIC]

## LPC1788
designator *
footprint LPC1788 (TSQFP, 208-Leads, Body 30.1x30.1mm (max), Pitch 0.50mm, IPC Medium Density)
pins: 1 P3[12]/EMC_D[12], 2 JTAG_TDO, 3 P3[3]/EMC_D[3], 4 JTAG_TDI, 5 P3[28]/EMC_D[28]/PWM1[5]/T1_CAP1, 6 JTAG_TMS, 7 P3[13]/EMC_D[13], 8 JTAG_TRST, 9 P5[0]/EMC_A[24]/SSP2_MOSI/T2_MAT2, 10 JTAG_TCK, 11 P3[29]/EMC_D[29]/PWM1[6]/T1_MAT0, 12 P0[26]/ADC0_IN[3]/DAC_OUT/U3_RXD, 13 P3[4]/EMC_D[4], 14 P0[25]/ADC0_IN[2]/I2S_RX_SDA/U3_TXD, 15 VDD(3V3), 16 P0[24]/ADC0_IN[1]/I2S_RX_WS/T3_CAP1, 17 P3[5]/EMC_D[5], 18 P0[23]/ADC0_IN[0]/I2S_RX_SCK/T3_CAP0, 19 P3[30]/EMC_D[30]/U1_RTS/T1_MAT1, 20 VDDA, 21 PE[14]/EMC_D[14], 22 VSSA, 23 P3[6]/EMC_D[6], 24 VREFP, 25 P3[31]/EMC_D[31]/T1_MAT2, 26 VDD(REG)(3V3), 27 P3[7]/EMC_D[7], 28 P3[15]/EMC_D[15], 29 RSTOUT, 30 P5[1]/EMC_A[25]/SSP2_MISO/T2_MAT3, 31 P2[30]/EMC_DQM2/I2C2_SDA/T3_MAT2, 32 VSSREG, 33 VSS, 34 RTCX1, 35 RESET, 36 RTCX2, 37 RTC_ALARM, 38 VBAT, 39 P2[31]/EMC_DQM3/I2C2_SCL/T3_MAT3, 40 P1[31]/USB_OVRCR2/SSP1_SCK/ADC0_IN[5]/I2C0_SCL, 41 P0[12]/USB_PPWR2/SSP1_MISO/ADC0_IN[6], 42 P1[30]/USB_PWRD2/USB_VBUS/ADC0_IN[4]/I2C0_SDA/U3_OE, 43 P2[29]/EMC_DQM1, 44 XTAL1, 45 P0[13]/USB_UP_LED2/SSP1_MOSI/ADC0_IN[7], 46 XTAL2, 47 P2[27]/EMC_CKE3/SSP0_MOSI/T3_MAT1, 48 P0[28]/IS20_SCL/USB_SCL1, 49 P2[28]/EMC_DQM0, 50 P0[27]/I2C0_SDA/USB_SDA1, 51 P0[31]/USB_D+2 hidden, 52 USB_D-2, 53 P2[24]/EMC_CKE0, 54 P2[25]/EMC_CKE1, 55 PE[26]/EMC_D[26]/PWM1[3]/T0_MAT1/STCLK, 56 P3[25]/EMC_D[25]/PWM1[2]/T0_MAT0, 57 P2[26]/EMC_CKE2/SSP0_MISO/T3_MAT0, 58 P3[24]/EMC_D[24]/PWM1[1]/T0_CAP1, 59 P2[18]/EMC_CLK[0], 60 VDD(3V3), 61 P0[29]/USB_D+1/EINT0, 62 P0[30]/USB_D-1/EINT1, 63 VSS, 64 P2[23]/EMC_DYCS3/SSP0_SSEL/T3_CAP1, 65 P3[23]/EMC_D[23]/PWM1_CAP0/T0_CAP0, 66 P1[18]/USB_UP_LED1/PWM1[1]/T1_CAP0/SSP1_MISO, 67 P2[19]/EMC_CLK[1], 68 P1[19]/USB_TX_E1/USB_PPWR1/T1_CAP1/MC_0A/SSP1_SCK/U2_OE, 69 P0[14]/USB_HSTEN2/SSP1_SSEL/USB_CONNECT2, 70 P1[20]/USB_TX_DP1/PWM1[2]/QEI_PHA/MC_FB0/SSP0_SCK/LCD_VD[6]/LCD_VD[10], 71 VDD(3V3), 72 P1[21]/USB_TX_DM1/PWM1[3]/SSP0_SSEL/MC_ABORT/LCD_VD[7]/LCD_VD[11], 73 P2[20]/EMC_DYCS0, 74 P1[22]/USB_RCV1/USB_PWRD1/T1_MAT0/MC_0B/SSP1_MOSI/LCD_VD[8]/LCD_VD[12], 75 P4[0]/EMC_A[0], 76 P1[23]/USB_RX_DP1/PWM1[4]/QEI_PHB/MC_FB1/SSP0_MISO/LCD_VD[9]/LCD_VD[13], 77 VSS, 78 P1[24]/USB_RX_DM1/PWM1[5]/QEI_IDX/MC_FB2/SSP0_MOSI/LCD_VD[10]/LCD_VD[14], 79 P4[1]/EMC_A[1], 80 P1[25]/USB_LS1/USB_HSTEN1/T1_MAT/MC_1A/CLKOUT/LCD_VD[11]/LCD_VD[15], 81 P2[21]/EMC_DYCS1, 82 P1[26]/USB_SSPND1/PWM1[6]/T0_CAP0/MC_1B/SSP1_SSEL/LCD_VD[12]/LCD_VD[20], 83 PR[2]/EMC_A[2], 84 VSSREG, 85 P2[22]/EMC_DYCS2/SSP0_SCK/T3_CAP0, 86 VDD(REG)(3V3), 87 P2[16]/EMC_CAS, 88 P1[27]/USB_INT1/USB_OVRCR1/T0_CAP1/CLKOUT/LCD_VD[13]/LCD_VD[21], 89 VDD(3V3), 90 P1[28]/USB_SCL1/PWM1_CAP0/T0_MAT0/MC_2A/SSP0/SSEL/LCD_VD[14]/LCD_VD[22], 91 P2[14]/EMC_CS2/I2C1_SDA/T2_CAP0, 92 P1[29]/USB_SDA1/PWM1_CAP1/T0_MAT1/MC_2B/U4_TXD/LCD_VD[15]/LCD_VD[23], 93 VSS, 94 P0[0]/CAN_RD1/U3_TXD/I2C1_SDA/U0_TXD, 95 P2[17]/EMC_RAS, 96 P0[1]/CAN_TD1/U3_RXD/I2C1_SCL/U0_RXD, 97 P4[3]/EMC_A[3], 98 P0[10]/U2_TXD/I2C2_SDA/T3_MAT0, 99 P2[15]/EMC_CS3/I2C1_SCL/T2_CAP1, 100 P0[11]/U2_RXD/I2C2_SCL/T3_MAT1, 101 PR[16]/EMC_A[16], 102 P2[13]/EINT3/SD_DAT[3]/I2S_TX_SDA/LCD_VD[5]/LCD_VD[9]/LCD_VD[19], 103 P4[4]/EMC_A[4], 104 P4[17]/EMC_A[17], 105 P4[18]/EMC_A[18], 106 P2[12]/EINT2/SD_DAT[2]/SD_DAT[2]/I2S_TX_WS/LCD_VD[4]/LCD_VD[3]/LCD_VD[8]/LCD_VD[18], 107 P4[5]/EMC_A[5], 108 P2[11]/EINT1/SD_DAT[1]/I2S_TX_SCK/LCD_CLKIN, 109 PR[20]/EMC_A[20]/I2C2_SDA/SSP1_SCK, 110 P2[10]/EINT0/NMI, 111 P4[19]/EMC_A[19], 112 VDD(3V3), 113 P4[6]/EMC_A[6], 114 VSS, 115 P4[21]/EMC_A[21]/I2C2_SCL/SSP1_SSEL, 116 P0[22]/U1_RTS/SD_DAT[0]/U4_TXD/CAN_TD1, 117 P5[2]/T3_MAT2/I2C0_SDA, 118 P0[21]/U1_RI/SD_PWR/U4_OE/CAN_RD1/U4_SCLK, 119 P4[26]/EMC_BLS0, 120 P0[20]/U1_DTR/SD_CMD/I2C1_SCL, 121 P4[7]/EMC_A[7], 122 P0[19]/U1_DSR/SD_CLK/I2C1_SDA, 123 P4[22]/EMC_A[22]/U2_RXD/SSP1_MOSI, 124 P0[18]/U1_DCD/SSP0_MOSI, 125 VDD(3V3), 126 P0[17]/U1_CTS/SSP0_MISO, 127 P4[8]/EMC_A[8], 128 P0[15]/U1_TXD/SSP0_SCK, 129 PR[23]/EMC_A[23]/U2_RXD/SSP1_MOSI, 130 P0[16]/U1_RXD/SSP0_SSEL, 131 P4[9]/EMC_A[9], 132 P2[9]/USB_CONNECT1/U2_RXD/U4_RXD/ENET_MDIO/LCD_VD[3]/LCD_VD[7], 133 VSS, 134 P2[8]/CAN_TD2/U2_TXD/U1_CTS/ENET_MDC/LCD_VD[2]/LCD_VD[6], 135 P4[10]/EMC_A[10], 136 P2[7]/CAN_RD2/U1_RTS/LCD_VD[1]/LCD_VD[5], 137 P3[16]/EMC_D[16]/PWM0[1]/U1_TXD, 138 P2[6]/PWM1_CAP0/U1_RI/T2_CAP0/U2_OE/TRACECLK/LCD_VD[0]/LCD_VD[4], 139 P4[27]/EMC_BLS1, 140 P2[5]/PWM1[6]/U1_DTR/T2_MAT0/TRACEDATA[0]/LCD_LP, 141 P5[3]/U4_RXD/I2C0_SCL, 142 P2[4]/PWM1[5]/U1_DSR/T2_MAT1/TRACEDATA[1]/LCD_ENAB_M, 143 P3[17]/EMC_D[17]/PWM0[2]/U1_RXD, 144 P2[3]/PWM1[4]/U1_DCD/T2_MAT2/TRACEDATA[2]/LCD_FP, 145 P4[11]/EMC_A[11], 146 VDD(3V3), 147 P1[13]/ENET_RX_DV, 148 VSS, 149 PR[12]/EMC_A[12], 150 P2[2]/PWM1[3]/U1_CTS/T2_MAT3/TRACEDATA[3]/LCD_DCLK, 151 P3[18]/EMC_D[18]/PWM0[3]/U1_CTS, 152 P2[1]/PWM1[2]/U1_RXD/LCD_LE, 153 P1[7]/ENET_COL/SD_DAT[1]/PWM0[5], 154 P2[0]/PWM1[1]/U1_TXD/LCD_PWR, 155 P4[13]/EMC_A[13], 156 P1[5]/ENET_TX_ER/SD_PWR/PWM0[3], 157 P1[12]/ENET_RXD3/SD_DAT[3]/PWM0_CAP0, 158 P0[9]/I2S_TX_SDA/SSP1_MOSI/T2_MAT3/RTC_EV2/LCD_VD[17], 159 PR[14]/EMC_A[14], 160 P0[8]/I2S_TX_WS/SSP1_MISO/T2_MAT2/RTC_EV1/LCD_VD[16], 161 P3[19]/EMC_D[19]/PWM0[4]/U1_DCD, 162 P0[7]/I2S_TX_SCK/SSP1_SCK/T2_MAT1/RTC_EV0/LCD_VD[9], 163 P1[11]/ENET_RXD1/SD_DAT[2]/PWM0[6], 164 P0[6]/I2S_RX_SDA/SSP1_SSEL/T2_MAT0/U1_RTS/LCD_VD[8], 165 VDD(3V3), 166 P0[5]/I2S_RX_WS/CAN_TD2/T2_CAP1/LCD_VD[1], 167 P3[20]/EMC_D[20]/PWM0[5]/U1_DSR, 168 P0[4]/I2S_RX_SCK/CAN_RD2/T2_CAP0/LCD_VD[0], 169 VSS, 170 P4[28]/EMC_BLS2/U3_TXD/T2_MAT0/LCD_VD[6]/LCD_VD[10]/LCD_VD[2], 171 P1[6]/ENET_TX_CLK/SD_DAT[0]/PWM0[4], 172 VSSREG, 173 P4[15]/EMC_A[15], 174 VDD(REG)(3V3), 175 P3[21]/EMC_D[21]/PWM0[6]/U1_DTR, 176 P4[29]/EMC_BLS3/U3_RXD/T2_MAT1/I2C2_SCL/LCD_VD[7]/LCD_VD[11]/LCD_VD[3], 177 P1[3]/ENET_TXD3/SD_CMD/PWM0[2], 178 P1[17]/ENET_MDIO/IS2_RX_MCLK, 179 P4[25]/EMC_WE, 180 P1[16]/ENET_MDC/I2S_TX_MCLK, 181 VDD(3V3), 182 P1[15]/ENET_RX_CLK/I2C2_SDA, 183 P4[24]/EMC_OE, 184 P1[14]/ENET_RX_ER/T2_CAP0, 185 P1[2]/ENET_TXD2/SD_CLK/PWM0[1], 186 P1[10]/ENET_RXD1/T3_CAP0, 187 P4[30]/EMC_CS0, 188 P1[9]/ENET_RXD0/T3_MAT0, 189 VSS, 190 P1[8]/ENET_CRS/T3_MAT1/SSP2_SSEL, 191 P3[8]/EMC_D[8], 192 P1[4]/ENET_TX_EN/T3_MAT2/SSP2_MISO, 193 P4[31]/EMC_CS1, 194 P1[1]/ENET_TXD1/T3_MAT3/SSP2_MOSI, 195 P3[22]/EMC_D[22]/PWM0_CAP0/U1_RI, 196 P1[0]/ENET_TXD0/T3_CAP1/SSP2_SCK, 197 P3[0]/EMC_D[0], 198 VDD(3V3), 199 P3[9]/EMC_D[9], 200 VSS, 201 P3[1]/EMC_D[1], 202 P0[2]/U0_TXD/U3_TXD, 203 P3[27]/EMC_D[27]/PWM1[4]/T1_CAP0, 204 P0[3]/U0_RXD/U3_RXD, 205 P3[10]/EMC_D[10], 206 P5[4]/U0_OE/T3_MAT3/U4_TXD, 207 P3[2]/EMC_D[2], 208 P3[11]/EMC_D[11]

## LPC1857
designator *
pins: 47 P0.0/ SSP1_MISO0/ ENET_RXD1/ I2S0_TX_WS/ I2S1_TX_WS, 50 P0.1/ SSP1_MOSI/ ENET_COL/ ENET_TX_EN/ I2S1_TX_SDA, 54 P0.4/ CTIN_3/ EMC_A5/ SSP0_SSEL/ EMC_D12

## MAX270
designator *  Supplier Part Number 1: MAX270CWP+-ND
Dual 2nd Order Digitally Programmed Lowpass Filter; Supplier 1: Digi-Key; ComponentLink1URL: http://www.ti.com/lit/ds/symlink/ads8321.pdf; ComponentLink1Description: http://www.ti.com/lit/ds/symlink/ads8321.pdf
footprint SOIC127P1030X265-20N (SOIC, 20-Leads, Body 13.0x7.6mm (max), Pitch 1.27mm, IPC Medium Density)
pins: 1 OP OUT, 2 V+, 3 OUTA, 4 SHDN_, 5 INA, 6 V-, 7 INB, 8 OUTB, 9 GND, 10 WR_, 11 CS_, 12 A0, 13 D0, 14 D1, 15 D2, 16 D3, 17 D4, 18 D5, 19 D6, 20 OP IN

## MAX3221
designator *  Supplier Part Number 1: 296-9594-1-ND
Supplier 1: Digi-Key
footprint MAX3221
pins: 1 ~{EN}, 2 C1+, 3 V+, 4 C1-, 5 C2+, 6 C2-, 7 V-, 8 RIN, 9 ROUT, 10 ~{INVALID}, 11 DIN, 12 FORCEON, 13 DOUT, 14 GND, 15 VCC, 16 ~{FORCEOFF}

## MAX6143
designator *, comment 2.5/5.0?  Supplier Part Number 1: MAX6143AASA50+-ND
High precision reference; ComponentLink1URL: http://datasheets.maximintegrated.com/en/ds/MAX6143.pdf; ComponentLink1Description: http://datasheets.maximintegrated.com/en/ds/MAX6143.pdf; Supplier 1: Digi-Key
footprint SOIC127P600X175-8N (SOIC, 8-Leads, Body 5.0x4.0mm (max), Pitch 1.27mm, IPC Medium Density)
pins: 2 IN, 3 TEMP, 4 GND, 5 TRIM, 6 OUT, 7 ~{SHDN}

## Max6950
designator U  Supplier Part Number 1: MAX6951CEE+-ND
8 digit 3V LED driver; Supplier 1: Digi-Key
footprint MAX6950 (SOP, 16-Leads, Body 5.0x4.0mm (max), Pitch 0.63mm, IPC Medium Density)
pins: 1, 2, 3, 4, 5, 6, 7, 8, 9, 10, 11, 12, 13, 14, 15, 16

## Max7219-SOIC
designator *  Supplier Part Number 1: MAX7219CWG+-ND
Supplier 1: Digi-Key
footprint Max7219-SOIC (SOIC, 24-Leads, Body 15.6x7.6mm (max), Pitch 1.27mm, IPC Medium Density)
pins: 1 DIN, 2 DIG 0, 3 DIG 4, 4 GND, 5 DIG 6, 6 DIG 2, 7 DIG 3, 8 DIG 7, 9 GND, 10 DIG 5, 11 DIG 1, 12 LOAD (C~{S}), 13 CLK, 14 SEG A, 15 SEG F, 16 SEG B, 17 SEG G, 18 ISET, 19 V+, 20 SEG C, 21 SEG E, 22 SEG DP, 23 SEG D, 24 DOUT

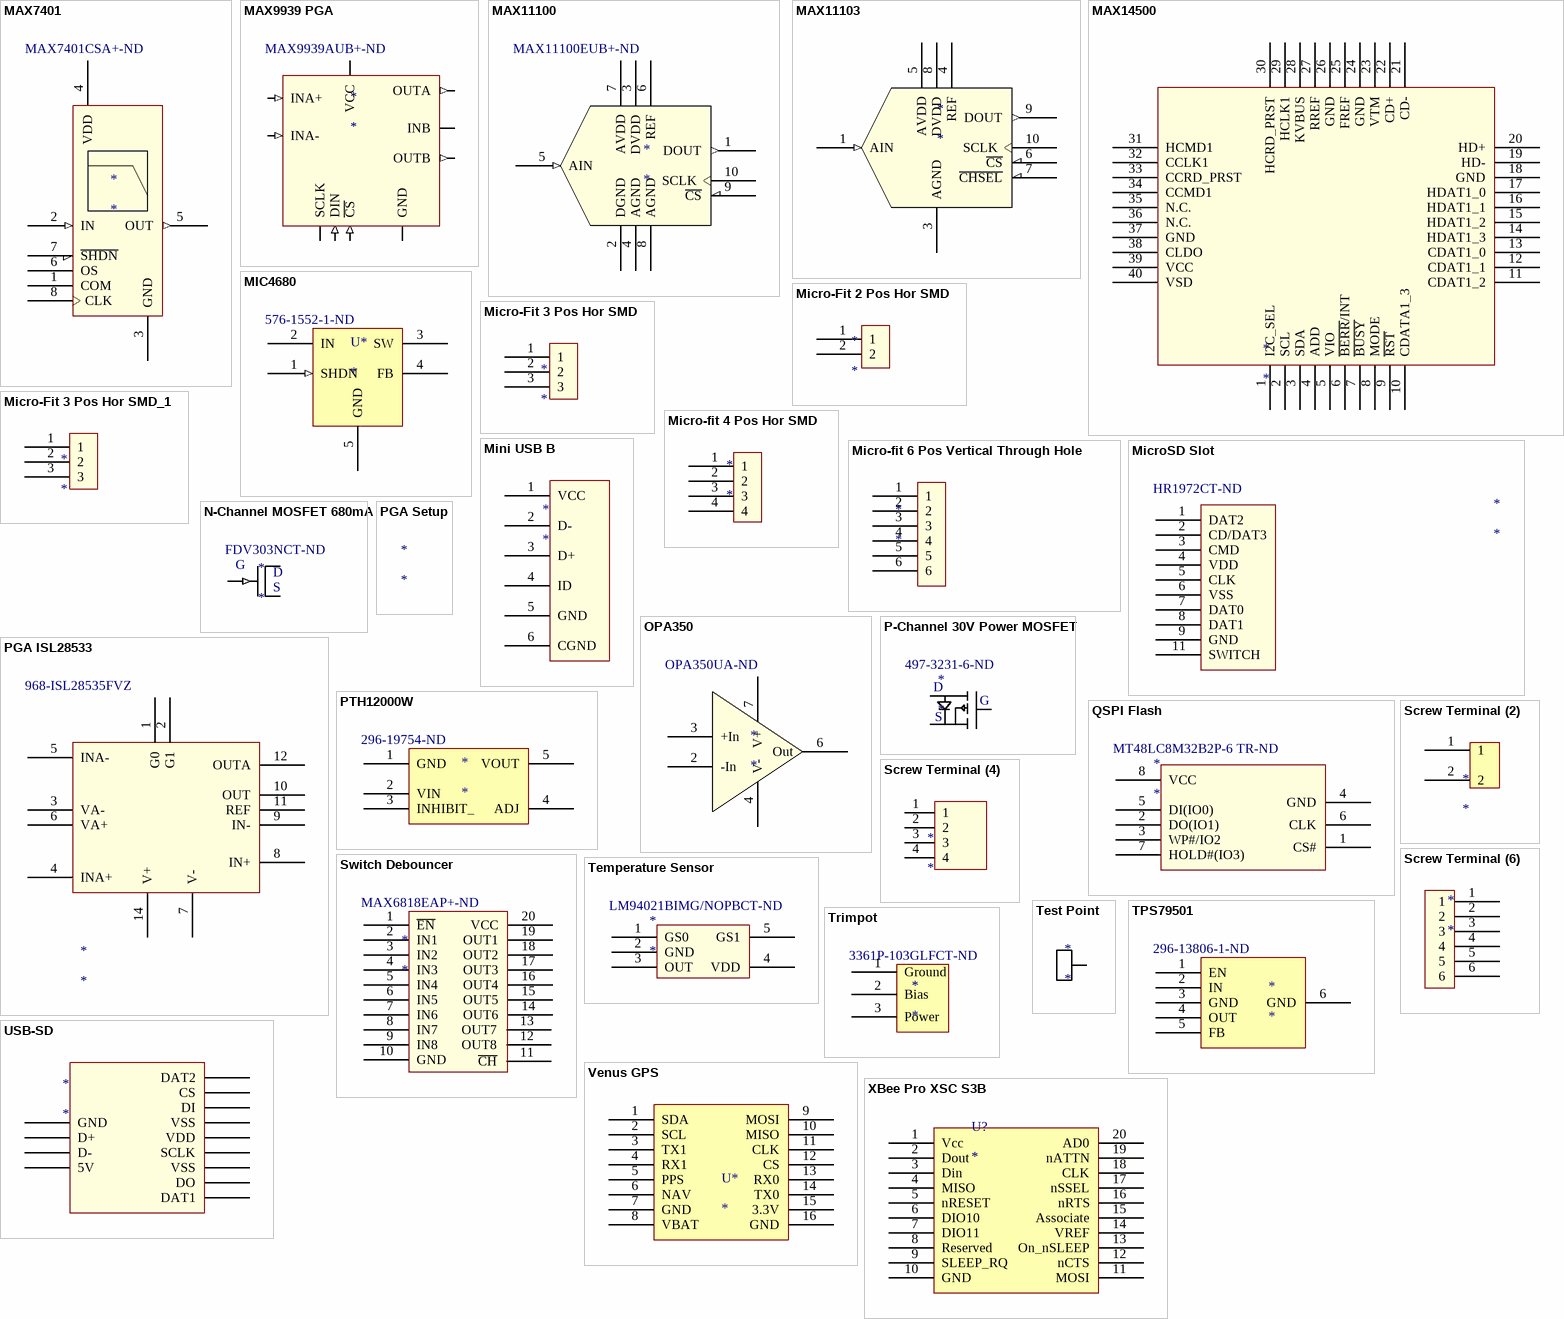
[diagram p5: symbols MAX7401 to XBee Pro XSC S3B]

## MAX7401
designator *  Supplier Part Number 1: MAX7401CSA+-ND
8th Order Lowpass 1-5kHz Filter; Supplier 1: Digi-Key; ComponentLink1URL: http://datasheets.maximintegrated.com/en/ds/MAX7401-MAX7405.pdf; ComponentLink1Description: http://datasheets.maximintegrated.com/en/ds/MAX7401-MAX7405.pdf
footprint SOIC127P600X175-8N (SOIC, 8-Leads, Body 5.0x4.0mm (max), Pitch 1.27mm, IPC Medium Density)
pins: 1 COM, 2 IN (in), 3 GND, 4 VDD, 5 OUT (out), 6 OS, 7 ~{SHDN}, 8 CLK

## MAX9939 PGA
designator *  Supplier Part Number 1: MAX9939AUB+-ND
Supplier 1: Digi-Key
footprint 10L uMax (TSSOP, 10-Leads, Body 2.95x2.95mm, Pitch 0.50mm, IPC Medium Density)
pins: 1 SCLK (io), 2 DIN (in), 3 GND, 4 INA- (in), 5 INA+ (in), 6 OUTB (out), 7 INB, 8 OUTA (out), 9 VCC, 10 ~{CS} (in)

## MAX11100
designator *  Supplier Part Number 1: MAX11100EUB+-ND
200ksps 16-bit Single ADC; ComponentLink1URL: http://datasheets.maximintegrated.com/en/ds/MAX11100.pdf; ComponentLink1Description: http://datasheets.maximintegrated.com/en/ds/MAX11100.pdf; Supplier 1: Digi-Key
footprint TSSOP50P490X110-10N (TSSOP, 10-Leads, Body 3.0x3.0mm (max), Pitch 0.50mm, IPC Medium Density)
pins: 1 DOUT (out), 2 DGND, 3 DVDD (power), 4 AGND, 5 AIN (in), 6 REF (power), 7 AVDD (power), 8 AGND, 9 ~{CS}, 10 SCLK

## MAX11103
designator *
footprint TSSOP50P490X110-10N (TSSOP, 10-Leads, Body 3.0x3.0mm (max), Pitch 0.50mm, IPC Medium Density)
pins: 1 AIN (in), 3 AGND, 4 REF (power), 5 AVDD (power), 6 ~{CS}, 7 ~{CHSEL}, 8 DVDD (power), 9 DOUT (out), 10 SCLK

## MAX14500
designator *
pins: 1 I2C_SEL, 2 SCL, 3 SDA, 4 ADD, 5 VIO, 6 ~{BERR}/INT, 7 ~{BUSY}, 8 MODE, 9 ~{RST}, 10 CDATA1_3, 11 CDAT1_2, 12 CDAT1_1, 13 CDAT1_0, 14 HDAT1_3, 15 HDAT1_2, 16 HDAT1_1, 17 HDAT1_0, 18 GND, 19 HD-, 20 HD+, 21 CD-, 22 CD+, 23 VTM, 24 GND, 25 FREF, 26 GND, 27 RREF, 28 KVBUS, 29 HCLK1, 30 HCRD_PRST, 31 HCMD1, 32 CCLK1, 33 CCRD_PRST, 34 CCMD1, 35 N.C., 36 N.C., 37 GND, 38 CLDO, 39 VCC, 40 VSD

## MIC4680
designator U*  Supplier Part Number 1: 576-1552-1-ND
3.3V Fixed Switching Regulator 1A; Supplier 1: Digi-Key
footprint TJA1040 (SOIC, 8-Leads, Body 5.0x4.0mm (max), Pitch 1.27mm, IPC Medium Density)
pins: 1 SHDN (in), 2 IN, 3 SW, 4 FB, 5 GND, 6, 7, 8

## Micro-Fit 2 Pos Hor SMD
designator *
footprint Micro-fit 2 Pos Hor SMD - duplicate
pins: 1, 2

## Micro-Fit 3 Pos Hor SMD
designator *
footprint Micro-fit 3 Pos Hor SMD - duplicate1
pins: 1, 2, 3

## Micro-Fit 3 Pos Hor SMD_1
designator *
footprint Micro-fit 3 Pos Hor SMD - duplicate1
pins: 1, 2, 3

## Micro-fit 4 Pos Hor SMD
designator *
footprint Micro-fit 4 Pos Hor SMD
pins: 1, 2, 3, 4

## Micro-fit 6 Pos Vertical Through Hole
designator *
footprint Microfit 6 Pos Vertical Through Hole
pins: 1, 2, 3, 4, 5, 6

## MicroSD Slot
designator *  Supplier Part Number 1: HR1972CT-ND
Supplier 1: Digi-Key
footprint MicroSD Slot (DM3CS-SF)
pins: 1 DAT2, 2 CD/DAT3, 3 CMD, 4 VDD, 5 CLK, 6 VSS, 7 DAT0, 8 DAT1, 9 GND, 11 SWITCH

## Mini USB B
designator *
footprint Mini USB B
pins: 1 VCC, 2 D-, 3 D+, 4 ID, 5 GND, 6 CGND

## N-Channel MOSFET 680mA
designator *  Supplier Part Number 1: FDV303NCT-ND
Supplier 1: Digi-Key
footprint N-Channel MOSFET 680mA (FDV303N)
pins: 1 G, 2 D, 3 S

## OPA350
designator *  Supplier Part Number 1: OPA350UA-ND
High Speed A/D Buffer; Supplier 1: Digi-Key; ComponentLink1URL: http://www.ti.com/lit/ds/symlink/opa350.pdf; ComponentLink1Description: http://www.ti.com/lit/ds/symlink/opa350.pdf
footprint SOIC127P600X175-8N (SOIC, 8-Leads, Body 5.0x4.0mm (max), Pitch 1.27mm, IPC Medium Density)
pins: 2 -In, 3 +In, 4 V-, 6 Out, 7 V+

## P-Channel 30V Power MOSFET
designator *  Supplier Part Number 1: 497-3231-6-ND
Supplier 1: Digi-Key; ComponentLink1URL: http://www.st.com/web/en/resource/technical/document/datasheet/CD00001945.pdf; ComponentLink1Description: http://www.st.com/web/en/resource/technical/document/datasheet/CD00001945.pdf
footprint P-FET Power (STS5PF30L 5A)
pins: 1 G, 2 D, 3 S

## PGA ISL28533
designator *  Supplier Part Number 1: 968-ISL28535FVZ
Supplier 1: Mouser
footprint TSOP65P640X120-14N (TSOP, 14-Leads, Body 5.00x4.40mm, Pitch 0.65mm, IPC Medium Density)
pins: 1 G0, 2 G1, 3 VA-, 4 INA+, 5 INA-, 6 VA+, 7 V-, 8 IN+, 9 IN-, 10 OUT, 11 REF, 12 OUTA, 14 V+

## PGA Setup
designator *

## PTH12000W
designator *  Supplier Part Number 1: 296-19754-ND
Adj 6A 12Vin Power Module; ComponentLink1URL: http://www.ti.com/lit/ds/symlink/pth12000l.pdf; ComponentLink1Description: http://www.ti.com/lit/ds/symlink/pth12000l.pdf; Supplier 1: Digi-Key
footprint PowerModule
pins: 1 GND, 2 VIN, 3 INHIBIT_, 4 ADJ, 5 VOUT

## QSPI Flash
designator *  Supplier Part Number 1: MT48LC8M32B2P-6 TR-ND
Supplier 1: Digi-Key
footprint S25FL032P (SOIC, 8-Leads, Body 5.28x4.64mm, Pitch 1.27mm, IPC Medium Density)
pins: 1 CS#, 2 DO(IO1), 3 WP#/IO2, 4 GND, 5 DI(IO0), 6 CLK, 7 HOLD#(IO3), 8 VCC

## Screw Terminal (2)
designator *
footprint Terminal Block 2
pins: 1, 2

## Screw Terminal (4)
designator *
footprint Terminal Block 4
pins: 1, 2, 3, 4

## Screw Terminal (6)
designator *
footprint Terminal Block 6
pins: 1, 2, 3, 4, 5, 6

## Switch Debouncer
designator *  Supplier Part Number 1: MAX6818EAP+-ND
Supplier 1: Digi-Key
footprint SOP65P780X199-20N (SOP, 20-Leads, Body 7.3x5.4mm (max), Pitch 0.65mm, IPC Medium Density)
pins: 1 ~{EN}, 2 IN1, 3 IN2, 4 IN3, 5 IN4, 6 IN5, 7 IN6, 8 IN7, 9 IN8, 10 GND, 11 ~{CH}, 12 OUT8, 13 OUT7, 14 OUT6, 15 OUT5, 16 OUT4, 17 OUT3, 18 OUT2, 19 OUT1, 20 VCC

## Temperature Sensor
designator *  Supplier Part Number 1: LM94021BIMG/NOPBCT-ND
Supplier 1: Digi-Key
footprint SOT65P210X110-5N (SOT23, 5-Leads, Body 2.2x2.4mm (max), Pitch 0.65mm, IPC Medium Density)
pins: 1 GS0, 2 GND, 3 OUT, 4 VDD, 5 GS1

## Test Point
designator *
Supplier 1: Digi-Key; Supplier Part Number 1: 5019KCT-ND
footprint Test Point
pins: 1

## TPS79501
designator *  Supplier Part Number 1: 296-13806-1-ND
Low noise Adjustable LDO; Supplier 1: Digi-Key; ComponentLink1URL: http://www.ti.com/lit/ds/symlink/tps79501.pdf; ComponentLink1Description: http://www.ti.com/lit/ds/symlink/tps79501.pdf
footprint SOT127P706X180-6N (SOT223, 6-Leads, Body 6.6x7.3mm (max), Pitch 1.27mm, IPC Medium Density)
pins: 1 EN, 2 IN, 3 GND, 4 OUT, 5 FB, 6 GND

## Trimpot
designator *  Supplier Part Number 1: 3361P-103GLFCT-ND
Supplier 1: Digi-Key
footprint TrimPot
pins: 1 Ground, 2 Bias, 3 Power

## USB-SD
designator *
footprint SD-USB; pin to pad 5V>4 CS>6 D+>2 D->3 DAT1>13 DAT2>5 DI>7 DO>12 GND>1 SCLK>10 VDD>9 VSS>8
pins: 5V, CS, D+, D-, DAT1, DAT2, DI, DO, GND, SCLK, VDD, VSS, VSS

## Venus GPS
designator U*
Venus GPS Board from Sparkfun
footprint Venus GPS
pins: 1 SDA, 2 SCL, 3 TX1, 4 RX1, 5 PPS, 6 NAV, 7 GND, 8 VBAT, 9 MOSI, 10 MISO, 11 CLK, 12 CS, 13 RX0, 14 TX0, 15 3.3V, 16 GND

## XBee Pro XSC S3B
designator U?
footprint XBee Pro
pins: 1 Vcc, 2 Dout, 3 Din, 4 MISO, 5 nRESET, 6 DIO10, 7 DIO11, 8 Reserved, 9 SLEEP_RQ, 10 GND, 11 MOSI, 12 nCTS, 13 On_nSLEEP, 14 VREF, 15 Associate, 16 nRTS, 17 nSSEL, 18 CLK, 19 nATTN, 20 AD0